# Altium footprint library PersonalFootprintLibrary.PcbLib: 13 footprints
Each footprint in its own frame and in the unit in brackets; x right, y up, seen from the top. Pads: shape width x height; smd on the part's side, far side on the other; paste and mask are expansions set on the pad; w line width, h text height; cw(c..) or ccw(c..) is an arc to the next point about the centre after c.
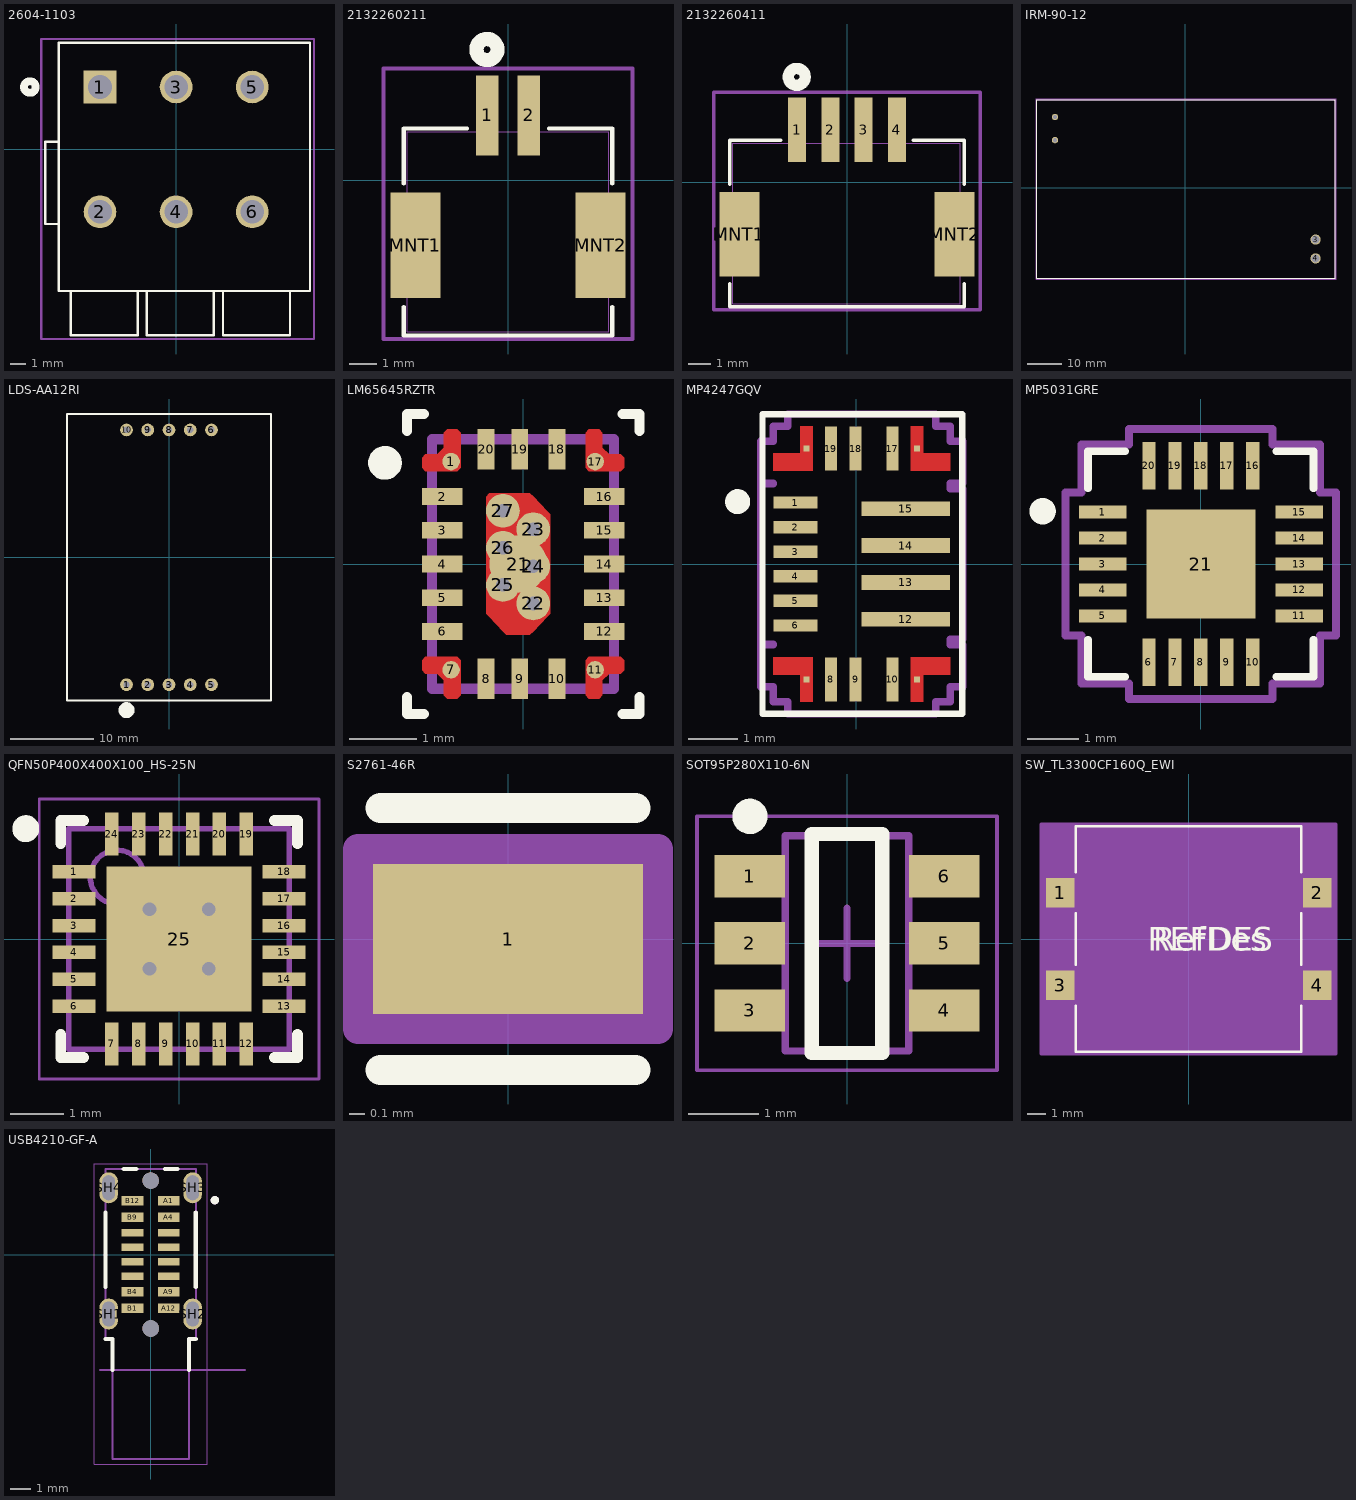
[diagram p0: the footprints below, top view; thin cyan lines are the x and y axes]

## 2604-1103 [mm]
pads (6):
  rect 2.15x2.15 hole 1.55 paste-2539.97 mask+0: 1(-5,4.1)
  round 2.15 hole 1.55 paste-2539.97 mask+0: 2(-5,-4.1) 3(0,4.1) 4(0,-4.1) 5(5,4.1) 6(5,-4.1)
Top Overlay:
  circle w0.508: c-9.605,4.1 r0.381
  lines w0.152: -7.7,-4.9 -8.6,-4.9 -8.6,0.5 -7.7,0.5 ; -6.92,-9.3 -6.92,-12.2 -2.52,-12.2 -2.52,-9.3 ; -1.92,-9.3 -1.92,-12.2 2.48,-12.2 2.48,-9.3 ; 3.08,-9.3 3.08,-12.2 7.48,-12.2 7.48,-9.3 ; -7.7,-9.3 8.8,-9.3 8.8,7 -7.7,7 -7.7,-9.3
Bottom Overlay:
  circle w0.508: c-9.605,4.1 r0.381
Mechanical 13:
  lines w0.025: -7.7,-4.9 -8.6,-4.9 -8.6,0.5 -7.7,0.5 ; -6.92,-9.3 -6.92,-12.2 -2.52,-12.2 -2.52,-9.3 ; -1.92,-9.3 -1.92,-12.2 2.48,-12.2 2.48,-9.3 ; 3.08,-9.3 3.08,-12.2 7.48,-12.2 7.48,-9.3 ; -7.7,-9.3 8.8,-9.3 8.8,7 -7.7,7 -7.7,-9.3
Mechanical 15:
  lines w0.152: -8.854,-12.454 -8.854,7.254 ; -8.854,-12.454 9.054,-12.454 9.054,7.254 -8.854,7.254 ; -8.854,-12.454 -8.854,7.254
3D body "2604-1103.stp": height 16.71, standoff -3.99, extent -8.6,-12.2 8.8,7

## 2132260211 [mm]
pads (4):
  rect 0.813x2.896 smd paste+0 mask+0: 1(-0.75,2.35) 2(0.75,2.35)
  rect 1.803x3.81 smd paste-1.905 mask-1.905: MNT1(-3.35,-2.35) MNT2(3.35,-2.35)
Top Overlay:
  circle w0.508: c-0.762,4.735 r0.381
  lines w0.152: -3.772,-4.588 -3.772,-5.616 3.772,-5.616 3.772,-4.588 ; -3.772,-0.112 -3.772,1.877 -1.489,1.877 ; 1.489,1.877 3.772,1.877 3.772,-0.112
Mechanical 13:
  lines w0.025: -3.645,-5.489 -3.645,1.75 3.645,1.75 3.645,-5.489 -3.645,-5.489
Mechanical 15:
  lines w0.152: -4.506,-5.743 4.506,-5.743 4.506,4.052 -4.506,4.052 -4.506,-5.743
3D body "2132260211.stp": height 6.4, standoff 0, extent -3.65,-5.53 3.65,2.97

## 2132260411 [mm]
pads (6):
  rect 0.813x2.896 smd paste+0 mask+0: 1(-2.25,2.35) 2(-0.75,2.35) 3(0.75,2.35) 4(2.25,2.35)
  rect 1.803x3.81 smd paste-1.905 mask-1.905: MNT1(-4.85,-2.35) MNT2(4.85,-2.35)
Top Overlay:
  circle w0.508: c-2.262,4.734 r0.381
  lines w0.152: -5.272,-4.588 -5.272,-5.616 5.272,-5.616 5.272,-4.588 ; -5.272,-0.112 -5.272,1.877 -2.989,1.877 ; 2.989,1.877 5.272,1.877 5.272,-0.112
Mechanical 13:
  lines w0.025: -5.145,-5.489 -5.145,1.75 5.104,1.75 5.104,-5.489 -5.145,-5.489
Mechanical 15:
  lines w0.152: -6.006,-5.743 6.006,-5.743 6.006,4.052 -6.006,4.052 -6.006,-5.743
3D body "2132260411.stp": height 6.41, standoff 0.01, extent -5.15,-5.5 5.15,3

## IRM-90-12 [mm]
pads (4):
  round 1.85 hole 1.25: 1(-38,20.625) 2(-38,13.875)
  round 3 hole 2.25: 3(38,-15.125) 4(38,-20.625)
Top Overlay:
  lines w0.127: -43.3,-26.375 -43.3,25.625 43.7,25.625 43.7,-26.375 -43.3,-26.375
Mechanical 13:
  lines w0.254: -43.3,-26.375 -43.3,25.625 43.7,25.625 43.7,-26.375 -43.3,-26.375
Mechanical 15:
  lines w0.05: -43.55,-26.625 -43.55,25.875 43.95,25.875 43.95,-26.625 -43.55,-26.625
3D body "MPM-45,65,90,IRM-90.STEP": height 29.51, standoff 0.01, extent -43.296,-26.357 43.704,25.643

## LDS-AA12RI [mil]
height 157.48
pads (10):
  round 60 hole 30: 1(-200,-600) 2(-100,-600) 3(0,-600) 4(100,-600) 5(200,-600) 6(200,600) 7(100,600) 8(0,600) 9(-100,600) 10(-200,600)
Top Overlay:
  circle w39.37: c-200,-720 r18.03
  lines w9.84: -480,-675 480,-675 480,675 -480,675 -480,-675
3D body "LDS-AA12RI.stp": height 413.39, standoff -188.98, extent -472.44,-669.29 472.44,669.29

## LM65645RZTR [mm]
pads (27):
  round 0.259 smd paste+0 mask+0: 1(-1.069,1.519) 7(-1.069,-1.569) 11(1.069,-1.569) 17(1.069,1.519)
  rect 0.6x0.25 smd paste+0 mask+0: 2(-1.2,1) 3(-1.2,0.5) 4(-1.2,0) 5(-1.2,-0.5) 6(-1.2,-1) 12(1.2,-1) 13(1.2,-0.5) 14(1.2,0) 15(1.2,0.5) 16(1.2,1)
  rect 0.25x0.6 smd paste+0 mask+0: 8(-0.55,-1.7) 9(-0.05,-1.7) 10(0.5,-1.7) 18(0.5,1.7) 19(-0.05,1.7) 20(-0.55,1.7)
  round 0.855 smd paste-0.415 mask+0: 21(-0.075,0)
  round 0.5 / inner round 1.524 / far side round 0.5 hole 0.203 paste-2539.97 mask+0: 22(0.15,-0.585) 23(0.15,0.515) 24(0.15,-0.035) 25(-0.3,-0.31) 26(-0.3,0.24) 27(-0.3,0.79)
Top Layer:
  region: -0.975,1.375 -1.45,1.375 -1.5,1.425 -1.5,1.575 -1.45,1.625 -1.275,1.625 -1.175,1.725 -1.175,1.95 -1.125,2 -0.975,2 -0.925,1.95 -0.925,1.425
  region: -0.975,-1.375 -1.45,-1.375 -1.5,-1.425 -1.5,-1.575 -1.45,-1.625 -1.275,-1.625 -1.175,-1.725 -1.175,-1.95 -1.125,-2 -0.975,-2 -0.925,-1.95 -0.925,-1.425
  region: 0.975,-1.375 1.45,-1.375 1.5,-1.425 1.5,-1.575 1.45,-1.625 1.275,-1.625 1.175,-1.725 1.175,-1.95 1.125,-2 0.975,-2 0.925,-1.95 0.925,-1.425
  region: 0.975,1.375 1.45,1.375 1.5,1.425 1.5,1.575 1.45,1.625 1.275,1.625 1.175,1.725 1.175,1.95 1.125,2 0.975,2 0.925,1.95 0.925,1.425
  region: -0.55,-0.735 -0.55,1 -0.5,1.05 0.099,1.05 0.149,1.001 0.354,0.785 0.4,0.735 0.4,-0.735 0.354,-0.785 0.149,-1.001 0.099,-1.05 -0.249,-1.05 -0.299,-1.001 -0.504,-0.785
Top Overlay:
  circle w0.25: c-2.05,1.5 r0.125
  lines w0.15: -1.725,-1.975 -1.725,-2.225 -1.475,-2.225 ; -1.725,1.975 -1.725,2.225 -1.475,2.225 ; 1.475,-2.225 1.725,-2.225 1.725,-1.975 ; 1.475,2.225 1.725,2.225 1.725,1.975
Top Paste:
  region: 0.325,-0.135 -0.475,-0.135 -0.525,-0.185 -0.525,-0.718 -0.479,-0.768 -0.279,-0.993 -0.229,-1.04 0.079,-1.04 0.129,-0.993 0.329,-0.768 0.375,-0.718 0.375,-0.185
  region: 0.325,0.065 -0.475,0.065 -0.525,0.115 -0.525,0.99 -0.475,1.04 0.079,1.04 0.129,0.993 0.329,0.768 0.375,0.718 0.375,0.115
  region: -0.975,1.375 -1.45,1.375 -1.5,1.425 -1.5,1.575 -1.45,1.625 -1.275,1.625 -1.175,1.725 -1.175,1.95 -1.125,2 -0.975,2 -0.925,1.95 -0.925,1.425
  region: -1.5,-1.425 -1.45,-1.375 -0.975,-1.375 -0.925,-1.425 -0.925,-1.95 -0.975,-2 -1.125,-2 -1.175,-1.95 -1.175,-1.725 -1.275,-1.625 -1.45,-1.625 -1.5,-1.575
  region: 0.975,-1.375 1.45,-1.375 1.5,-1.425 1.5,-1.575 1.45,-1.625 1.275,-1.625 1.175,-1.725 1.175,-1.95 1.125,-2 0.975,-2 0.925,-1.95 0.925,-1.425
  region: 1.5,1.425 1.45,1.375 0.975,1.375 0.925,1.425 0.925,1.95 0.975,2 1.125,2 1.175,1.95 1.175,1.725 1.275,1.625 1.45,1.625 1.5,1.575
Top Solder:
  region: -0.975,1.375 -1.45,1.375 -1.5,1.425 -1.5,1.575 -1.45,1.625 -1.275,1.625 -1.175,1.725 -1.175,1.95 -1.125,2 -0.975,2 -0.925,1.95 -0.925,1.425
  region: -1.5,-1.425 -1.45,-1.375 -0.975,-1.375 -0.925,-1.425 -0.925,-1.95 -0.975,-2 -1.125,-2 -1.175,-1.95 -1.175,-1.725 -1.275,-1.625 -1.45,-1.625 -1.5,-1.575
  region: 0.975,-1.375 1.45,-1.375 1.5,-1.425 1.5,-1.575 1.45,-1.625 1.275,-1.625 1.175,-1.725 1.175,-1.95 1.125,-2 0.975,-2 0.925,-1.95 0.925,-1.425
  region: 1.5,1.425 1.45,1.375 0.975,1.375 0.925,1.425 0.925,1.95 0.975,2 1.125,2 1.175,1.95 1.175,1.725 1.275,1.625 1.45,1.625 1.5,1.575
  region: -0.55,-0.735 -0.55,1 -0.5,1.05 0.099,1.05 0.149,1.001 0.354,0.785 0.4,0.735 0.4,-0.735 0.354,-0.785 0.149,-1.001 0.099,-1.05 -0.249,-1.05 -0.299,-1.001 -0.504,-0.785
Mechanical 13:
  lines w0.15: -1.35,-1.85 1.35,-1.85 1.35,1.85 -1.35,1.85 -1.35,-1.85
3D body "RZT0020A.stp": height 0.7, standoff 0, extent -1.3,-1.8 1.3,1.8

## MP4247GQV [mm]
pads (20):
  rect 0.9x0.25 smd paste+0 mask+0: 1(-1.238,1.25) 2(-1.238,0.75) 3(-1.238,0.25) 4(-1.238,-0.25) 5(-1.238,-0.75) 6(-1.238,-1.25)
  rect 0.127x0.127 smd paste-0.064 mask-0.064: 7(-1.013,-2.35) 11(1.238,-2.35) 16(1.238,2.35) 20(-1.013,2.35)
  rect 0.25x0.9 smd paste+0 mask+0: 8(-0.513,-2.35) 9(-0.013,-2.35) 10(0.738,-2.35) 17(0.738,2.35) 18(-0.013,2.35) 19(-0.513,2.35)
  rect 1.8x0.3 smd paste+0 mask+0: 12(1.012,-1.125) 13(1.012,-0.375) 14(1.012,0.375) 15(1.012,1.125)
Top Layer:
  region: -0.888,2.8 -1.138,2.8 -1.138,2.25 -1.688,2.25 -1.688,1.9 -0.888,1.9
  region: 1.113,-2.8 1.363,-2.8 1.363,-2.25 1.913,-2.25 1.913,-1.9 1.113,-1.9
  region: -0.888,-2.8 -1.138,-2.8 -1.138,-2.25 -1.688,-2.25 -1.688,-1.9 -0.888,-1.9
  region: 1.113,2.8 1.363,2.8 1.363,2.25 1.913,2.25 1.913,1.9 1.113,1.9
Top Overlay:
  circle w0.254: c-2.413,1.27 r0.127
  lines w0.127: -1.905,-3.048 2.159,-3.048 2.159,3.048 -1.905,3.048 -1.905,-3.048
Top Paste:
  region: -0.888,2.8 -1.138,2.8 -1.138,2.25 -1.688,2.25 -1.688,1.9 -0.888,1.9
  region: -0.888,-2.8 -1.138,-2.8 -1.138,-2.25 -1.688,-2.25 -1.688,-1.9 -0.888,-1.9
  region: 1.113,-2.8 1.363,-2.8 1.363,-2.25 1.913,-2.25 1.913,-1.9 1.113,-1.9
  region: 1.113,2.8 1.363,2.8 1.363,2.25 1.913,2.25 1.913,1.9 1.113,1.9
Top Solder:
  region: -0.888,2.8 -1.138,2.8 -1.138,2.25 -1.688,2.25 -1.688,1.9 -0.888,1.9
  region: -0.888,-2.8 -1.138,-2.8 -1.138,-2.25 -1.688,-2.25 -1.688,-1.9 -0.888,-1.9
  region: 1.113,-2.8 1.363,-2.8 1.363,-2.25 1.913,-2.25 1.913,-1.9 1.113,-1.9
  region: 1.113,2.8 1.363,2.8 1.363,2.25 1.913,2.25 1.913,1.9 1.113,1.9
Mechanical 15:
  lines w0.152: -1.942,-2.504 -1.691,-2.504 -1.691,-2.807 -1.392,-2.807 -1.392,-3.054 1.617,-3.054 1.617,-2.807 1.916,-2.807 1.916,-2.504 2.167,-2.504 2.167,-1.646 1.916,-1.646 1.916,-1.529 2.166,-1.529 2.166,1.529 1.916,1.529 1.916,1.646 2.167,1.646 2.167,2.504 1.916,2.504 1.916,2.807 1.617,2.807 1.617,3.054 -1.392,3.054 -1.392,2.807 -1.691,2.807 -1.691,2.504 -1.942,2.504 -1.942,1.646 -1.691,1.646 -1.691,1.629 -1.942,1.629 -1.942,-1.629 -1.691,-1.629 -1.691,-1.646 -1.942,-1.646 -1.942,-2.504
3D body "MP4247GQV.step": height 0.86, standoff 0.01, extent -1.397,-2.5 1.603,2.5

## MP5031GRE [mil]
pads (21):
  rect 36x10 smd paste+0 mask+0: 1(-74.5,39.37) 2(-74.5,19.68) 3(-74.5,0) 4(-74.5,-19.68) 5(-74.5,-39.37) 11(74.5,-39.37) 12(74.5,-19.68) 13(74.5,0) 14(74.5,19.68) 15(74.5,39.37)
  rect 10x36 smd paste+0 mask+0: 6(-39.37,-74.5) 7(-19.68,-74.5) 8(0,-74.5) 9(19.68,-74.5) 10(39.37,-74.5) 16(39.37,74.5) 17(19.68,74.5) 18(0,74.5) 19(-19.68,74.5) 20(-39.37,74.5)
  rect 82.68x82.68 smd paste+0 mask+0: 21(0,0)
Top Overlay:
  circle w10: c-120,40 r5
  lines w6: -85.5,-57.47 -85.5,-85.5 -57.47,-85.5 ; -85.5,57.47 -85.5,85.5 -57.47,85.5 ; 57.47,-85.5 85.5,-85.5 85.5,-57.47 ; 57.47,85.5 85.5,85.5 85.5,57.47
Mechanical 15:
  lines w6: -102.5,-54.37 -90.5,-54.37 -90.5,-90.5 -54.37,-90.5 -54.37,-102.5 54.37,-102.5 54.37,-90.5 90.5,-90.5 90.5,-54.37 102.5,-54.37 102.5,54.37 90.5,54.37 90.5,90.5 54.37,90.5 54.37,102.5 -54.37,102.5 -54.37,90.5 -90.5,90.5 -90.5,54.37 -102.5,54.37 -102.5,-54.37
3D body "QFN-20_MP5031_MNP.step": height 37.09, standoff 0, extent -80.51,-80.51 80.51,80.51

## QFN50P400X400X100_HS-25N [mm] "QFN, 24-Leads, Body 4.00x4.00mm, Pitch 0.50mm, Thermal Pad 2.70x2.70mm, IPC Medium Density"
height 1
pads (25):
  rect 0.8x0.25 smd: 1(-1.95,1.25) 2(-1.95,0.75) 3(-1.95,0.25) 4(-1.95,-0.25) 5(-1.95,-0.75) 6(-1.95,-1.25) 13(1.95,-1.25) 14(1.95,-0.75) 15(1.95,-0.25) 16(1.95,0.25) 17(1.95,0.75) 18(1.95,1.25)
  rect 0.25x0.8 smd: 7(-1.25,-1.95) 8(-0.75,-1.95) 9(-0.25,-1.95) 10(0.25,-1.95) 11(0.75,-1.95) 12(1.25,-1.95) 19(1.25,1.95) 20(0.75,1.95) 21(0.25,1.95) 22(-0.25,1.95) 23(-0.75,1.95) 24(-1.25,1.95)
  rect 2.7x2.7 smd: 25(0,0)
via -0.55,0.55 diameter 0.508 hole 0.254
via 0.55,0.55 diameter 0.508 hole 0.254
via -0.55,-0.55 diameter 0.508 hole 0.254
via 0.55,-0.55 diameter 0.508 hole 0.254
Top Overlay:
  circle w0.25: c-2.85,2.05 r0.125
  lines w0.2: -2.2,-1.775 -2.2,-2.2 -1.775,-2.2 ; -2.2,1.775 -2.2,2.2 -1.775,2.2 ; 1.775,-2.2 2.2,-2.2 2.2,-1.775 ; 1.775,2.2 2.2,2.2 2.2,1.775
Mechanical 13:
  circle w0.1: c-1.15,1.15 r0.5
  lines w0.1: -2.05,-2.05 -2.05,2.05 2.05,2.05 2.05,-2.05 -2.05,-2.05
Mechanical 15:
  lines w0.05: -2.6,-2.6 -2.6,2.6 2.6,2.6 2.6,-2.6 -2.6,-2.6
  lines w0.1: -0.5,0 0.5,0 ; 0,-0.5 0,0.5
3D body "QFN50P400X400X100_HS-25N.step": height 1, standoff 0, extent -2.051,-2.051 2.051,2.051

## S2761-46R [mm]
pads (1):
  rect 1.8x1 smd paste+0 mask+0: 1(0,0)
Top Overlay:
  lines w0.2: -0.85,-0.875 0.85,-0.875 ; -0.85,0.875 0.85,0.875
Top 3D Body:
  lines w0.2: -0.85,-0.45 -0.85,0.45 0.85,0.45 0.85,-0.45 -0.85,-0.45
Top Courtyard:
  lines w0.2: -1,-0.6 1,-0.6 1,0.6 -1,0.6 -1,-0.6
Top Assembly:
  lines w0.2: -1,-0.6 -1,0.6 1,0.6 1,-0.6 -1,-0.6
Top Component Center:
  lines w0.1: -0.5,0 0.5,0 ; 0,-0.5 0,0.5
3D body "Conn_Harwin_S2761-46R_eec.STEP": height 0.25, standoff 0, extent -1,-0.6 1,0.6

## SOT95P280X110-6N [mm] "SOT23, 6-Leads, Body 2.90x2.80mm, Pitch 0.95mm, IPC Medium Density"
height 1.1
pads (6):
  rect 1x0.6 smd: 1(-1.375,0.95) 2(-1.375,0) 3(-1.375,-0.95) 4(1.375,-0.95) 5(1.375,0) 6(1.375,0.95)
Top Overlay:
  circle w0.25: c-1.375,1.8 r0.125
  lines w0.2: -0.5,-1.55 0.5,-1.55 0.5,1.55 -0.5,1.55 -0.5,-1.55
Mechanical 13:
  lines w0.1: -0.875,-1.525 -0.875,1.525 0.875,1.525 0.875,-1.525 -0.875,-1.525
Mechanical 15:
  lines w0.05: -2.125,-1.8 -2.125,1.8 2.125,1.8 2.125,-1.8 -2.125,-1.8
  lines w0.1: -0.5,0 0.5,0 ; 0,-0.5 0,0.5
3D body "SOT95P280X110-6N.step": height 1.1, standoff 0, extent -1.525,-1.525 1.525,1.525

## SW_TL3300CF160Q_EWI [mm]
pads (4):
  rect 1.549x1.6 smd paste+0 mask+0: 1(-6.975,2.5) 2(6.975,2.5) 3(-6.975,-2.5) 4(6.975,-2.5)
Top Overlay:
  lines w0.152: -6.121,-3.623 -6.121,-6.121 6.121,-6.121 6.121,-3.623 ; -6.121,-1.377 -6.121,1.377 ; -6.121,3.623 -6.121,6.121 6.121,6.121 6.121,3.623 ; 6.121,-1.377 6.121,1.377
  text "RefDes" at -1.905,-0.635 h1.27
  text "REFDES" at -2.222,-0.635 h1.27
Bottom Overlay:
  circle w0.508: c-7.899,2.5 r0.381
Mechanical 13:
  circle w0.508: c-6.975,4.405 r0.381
  lines w0.025: -5.994,-5.994 5.994,-5.994 5.994,5.994 -5.994,5.994 -5.994,-5.994
  text "RefDes2" at -2.222,-0.635 h1.27
Mechanical 15:
  region: 8.004,6.248 -8.004,6.248 -8.004,-6.248 8.004,-6.248
  lines w0.152: -8.004,-6.248 -8.004,6.248 8.004,6.248 8.004,-6.248 -8.004,-6.248
3D body "141_TL3300CFxxxQ.stp": height 8.8, standoff 0, extent -7.482,-5.978 7.518,6.022

## USB4210-GF-A [mm]
pads (22):
  rect 1.05x0.45 smd: A1(0.875,2.605) A4(0.875,1.805) A9(0.875,-1.795) A12(0.875,-2.595) B1(-0.875,-2.595) B4(-0.875,-1.795) B9(-0.875,1.805) B12(-0.875,2.605)
  rect 1.05x0.35 smd: A5(0.875,1.055) A6(0.875,0.355) A7(0.875,-0.345) A8(0.875,-1.045) B5(-0.875,-1.045) B6(-0.875,-0.345) B7(-0.875,0.355) B8(-0.875,1.055)
  oval 0.9x1.5 hole 0.6 slot 1.2 at 90 deg: SH1(-2.03,-2.875) SH2(2.03,-2.875) SH3(2.03,3.225) SH4(-2.03,3.225)
  round 0.8 hole 0.8 unplated: ""(0,-3.575) ""(0,3.575)
Top Overlay:
  circle w0.2: c3.1,2.625 r0.1
  lines w0.2: -2.18,-4.075 -1.85,-4.075 -1.85,-5.575 ; -2.18,-1.575 -2.18,2.025 ; -1.3,4.125 -0.7,4.125 ; 0.7,4.125 1.3,4.125 ; 1.85,-5.575 1.85,-4.075 2.18,-4.075 ; 2.18,-1.575 2.18,2.025
Mechanical 13:
  circle w0.2: c3.1,2.625 r0.1
  lines w0.1: -2.45,-5.575 4.55,-5.575 ; -2.18,-4.075 -1.85,-4.075 -1.85,-9.875 1.85,-9.875 1.85,-4.075 2.18,-4.075 2.18,4.125 -2.18,4.125 -2.18,-4.075
  text "PCB Edge" at 3.15,-5.325 h1
Mechanical 15:
  lines w0.05: -2.73,-10.125 2.73,-10.125 2.73,4.375 -2.73,4.375 -2.73,-10.125
3D body "usb4210-gf-a.stp": height 9.9, standoff -1.31, extent -2.18,-9.875 2.18,4.125